# EAGLE library part 431151008826 (library Eagle_WS-TASV (rev22a))
WS-TASV SMT Tact Switch 5x5 mm with ground terminal Material Properties Cover Material : Stainless Steel Properties Actuator Material:LCP Actuator Flammability :UL94 V-0 Rating Actuator Color:Black; White Frame Material:LCP Flammability Rating:UL94 V-0 Frame Color:Black Contact Material:Stainless Steel Contact Plating:Silver Terminal Material:Copper Alloy Terminal Plating:Silver VR:15 V (DC) Contact Resistance Initial:100 mΩ Contact Resistance After Life Test:2Ω RISO:100 MΩ Withstanding Voltage:250 V (AC) Washable:No Qty.:4000;5000 Mechanical Properties Electrical Life:200000 Times; 1000000 Times Stroke :0.25 mm General Information Operating Temperature:-40 up to +85 °C Washable:No Packaging Properties Packaging:Tape and Reel <https://www.we-online.com/catalog/media/o70340v209%20Family_WS-TASV_Normal_SMD_4311x10xx8x6.jpg> Details see: https://www.we-online.com/catalog/en/TASV_5X5_SMD_WITH_GROUND_TERMINAL_4311x10xx8x6/ Updated by Ella Wu 2020-11-18 2020(C) Wurth Elektronik
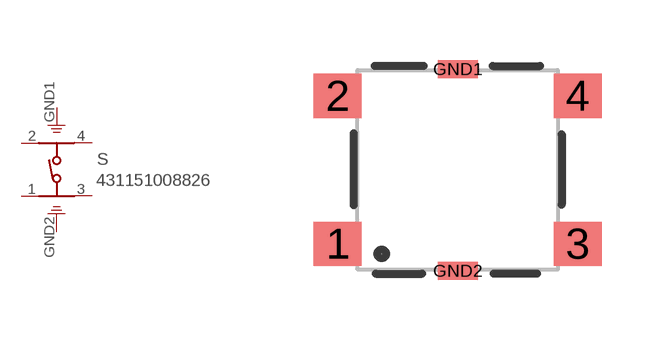
[diagram p8: symbol with the pads of 431151008826; footprint 431151008826]

Designator prefix S

## 431151008826 (DATASHEET-URL: https://www.we-online.com/catalog/datasheet/431151008826.pdf; H: 0.8mm; OPERATION-FORCE: 160g; PART-NUMBER: 431151008826; QTY: 5000; VALUE: 431151008826)  [431151008826]
1  1  pas
2  2  pas
3  3  pas
4  4  pas
GND1  5  pas
GND2  6  pas

## Footprint 431151008826 (pad centres in mm)
WS-TASV SMT Tact Switch 5x5 mm with ground terminal , 4 pins
smd 1.2 x 1.1: 1 -3,-1.85; 2 -3,1.85; 3 3,-1.85; 4 3,1.85
smd 1 x 0.45: GND1 0,2.525; GND2 0,-2.525